# EAGLE library part AVR_SPI_DEBUGWIRE (library jeff_headers)
AVR ISP SPI/DebugWire 6 Pin Header
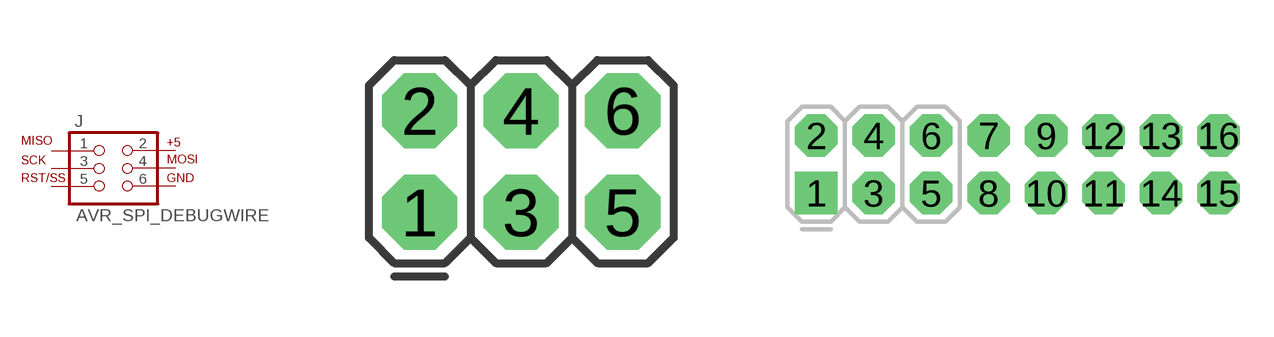
[diagram p0: symbol with the pads of 2X3; footprints 2X3, 2X3-NS]

Designator prefix J

## AVR_SPI_DEBUGWIREPTH  [2X3]
1  1  pas
2  2  pas
3  3  pas
4  4  pas
5  5  pas
6  6  pas

## AVR_SPI_DEBUGWIRENS  [2X3-NS]
Pads as for 2X3

## AVR_SPI_DEBUGWIRE2X3_LOCK  [2X3_LOCK]
Pads as for 2X3

## Footprint 2X3 (pad centres in mm)
drill 1.016 pad 1.88 octagon: 1 0,0; 2 0,2.54; 3 2.54,0; 4 2.54,2.54; 5 5.08,0; 6 5.08,2.54

## Footprint 2X3-NS (pad centres in mm)
drill 1.016 pad 1.88 square: 1 -2.54,-1.27
drill 1.016 pad 1.88 octagon: 2 -2.54,1.27; 3 0,-1.27; 4 0,1.27; 5 2.54,-1.27; 6 2.54,1.27; 7 5.08,1.27; 8 5.08,-1.27; 9 7.62,1.27; 10 7.62,-1.27; 11 10.16,-1.27; 12 10.16,1.27; 13 12.7,1.27; 14 12.7,-1.27; 15 15.24,-1.27; 16 15.24,1.27

## Footprint 2X3_LOCK (pad centres in mm)
drill 1.016 pad 1.88 octagon: 1 0,0; 2 0,2.54; 3 2.54,-0.254; 4 2.54,2.286; 5 5.08,0; 6 5.08,2.54